# Altium schematic symbol library AUDIO.SchLib: 3 symbols
Pins are listed as number, name and electrical type; pins without a type are passive.

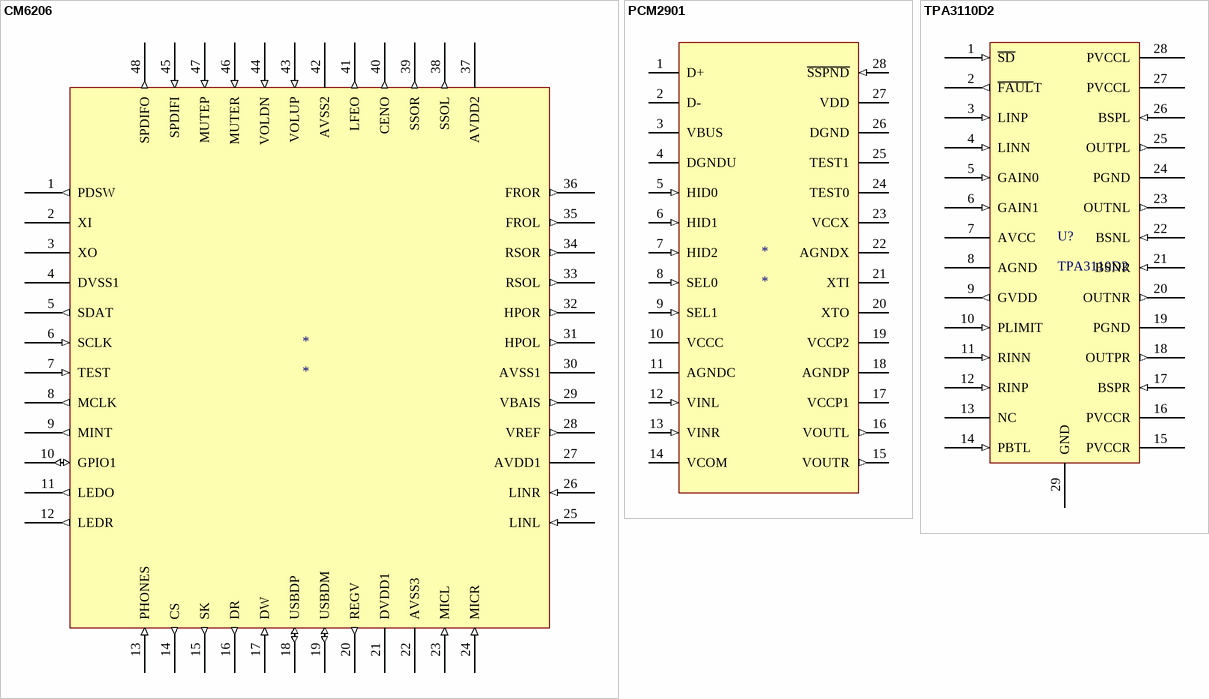
[diagram p0: symbols CM6206 to TPA3110D2]

## CM6206
designator *
footprint LQFP48 (LQFP PACKAGE)
pins: 1 PDSW (out), 2 XI, 3 XO, 4 DVSS1 (power), 5 SDAT (out), 6 SCLK (in), 7 TEST (in), 8 MCLK (out), 9 MINT (out), 10 GPIO1 (io), 11 LEDO (out), 12 LEDR (out), 13 PHONES (in), 14 CS (out), 15 SK (out), 16 DR (out), 17 DW (in), 18 USBDP (io), 19 USBDM (io), 20 REGV (out), 21 DVDD1 (power), 22 AVSS3 (power), 23 MICL (in), 24 MICR (in), 25 LINL (in), 26 LINR (in), 27 AVDD1 (power), 28 VREF (out), 29 VBAIS (out), 30 AVSS1 (power), 31 HPOL (out), 32 HPOR (out), 33 RSOL (out), 34 RSOR (out), 35 FROL (out), 36 FROR (out), 37 AVDD2 (power), 38 SSOL (out), 39 SSOR (out), 40 CENO (out), 41 LFEO (out), 42 AVSS2 (power), 43 VOLUP (in), 44 VOLDN (in), 45 SPDIFI (in), 46 MUTER (in), 47 MUTEP (in), 48 SPDIFO (out)

## PCM2901
designator *
footprint TSSOP28PW
pins: 1 D+, 2 D-, 3 VBUS (power), 4 DGNDU (power), 5 HID0 (in), 6 HID1 (in), 7 HID2 (in), 8 SEL0 (in), 9 SEL1 (in), 10 VCCC (power), 11 AGNDC (power), 12 VINL (in), 13 VINR (in), 14 VCOM (power), 15 VOUTR (out), 16 VOUTL (out), 17 VCCP1 (power), 18 AGNDP (power), 19 VCCP2 (power), 20 XTO, 21 XTI, 22 AGNDX (power), 23 VCCX (power), 24 TEST0, 25 TEST1, 26 DGND (power), 27 VDD (power), 28 ~{SSPND} (in)

## TPA3110D2
designator U?
TEXAS INSTRUMENTS - TPA3110D2PWPR - AMPLIFIER, AUDIO, CLASS D, 15W, HTSSOP-28; Supply Voltage Range: 8V to 26; Manufacturer Part Number: TPA3110D2PWPR; Manufacturer: TEXAS INSTRUMENTS; Supplier Part Number: 2352262; ComponentLink1URL: http://www.farnell.com/datasheets/1705342.pdf; ComponentLink1Description: http://www.farnell.com/datasheets/1705342.pdf
footprint TSSOP28 (TPA3110D2)
pins: 1 ~{SD} (in), 2 ~{FAUL}T (out), 3 LINP (in), 4 LINN (in), 5 GAIN0 (in), 6 GAIN1 (in), 7 AVCC (power), 8 AGND (power), 9 GVDD (out), 10 PLIMIT (in), 11 RINN (in), 12 RINP (in), 13 NC, 14 PBTL (in), 15 PVCCR (power), 16 PVCCR (power), 17 BSPR (in), 18 OUTPR (out), 19 PGND (power), 20 OUTNR (out), 21 BSNR (in), 22 BSNL (in), 23 OUTNL (out), 24 PGND (power), 25 OUTPL (out), 26 BSPL (in), 27 PVCCL (power), 28 PVCCL (power), 29 GND (power)